# Altium footprint library 10K Resistor.PcbLib: 1 footprints
Each footprint in its own frame and in the unit in brackets; x right, y up, seen from the top. Pads: shape width x height; smd on the part's side, far side on the other; paste and mask are expansions set on the pad; w line width, h text height; cw(c..) or ccw(c..) is an arc to the next point about the centre after c.
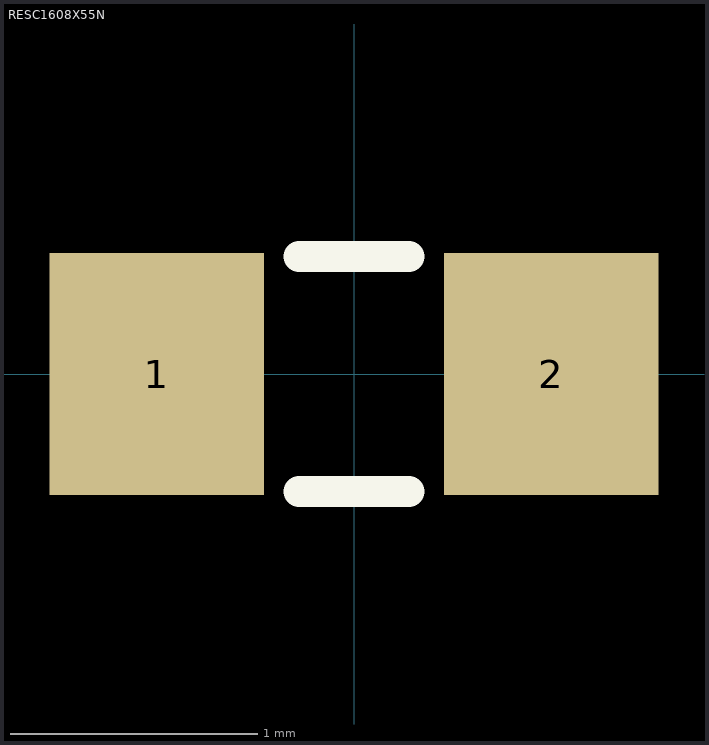
[diagram p0: the footprint, top view; thin cyan lines are the x and y axes]

## RESC1608X55N [mm]
pads (2):
  rect 0.87x0.98 smd: 1(-0.8,0) 2(0.8,0)
Top Overlay:
  lines w0.127: -0.222,-0.476 0.222,-0.476 ; -0.222,0.476 0.222,0.476
3D body: height 0.55, standoff 0, extent -0.85,-0.475 0.85,0.475